# EAGLE library part TLV61220 (library bt_regulator)
TLV61220 Low-Input Voltage Step-Up Voltage Converter / Regulator The TLV61220 device provides a power-supply solution for products powered by either a single-cell, two-cell, or three-cell alkaline, NiCd or NiMH, or one-cell Li-Ion or Li-polymer battery. Possible output Features: Up to 95% Efficiency at Typical Operating Conditions 5.5-μA Quiescent Current Startup Into Load at 0.7-V Input Voltage currents depend on the input-to-output voltage ratio. Operating Input Voltage from 0.7 V to 5.5 V Pass-Through Function during Shutdown Minimum Switching Current 200 mA Protections include output overvoltage, overtemperature, input undervoltage lockout Adjustable Output Voltage from 1.8 V to 5.5 V Small 6-pin Thin SOT-23 Package Datasheet: TLV61220.pdf <http://www.ti.com/lit/ds/symlink/tlv61220.pdf>
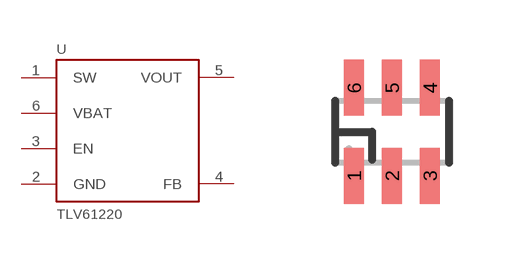
[diagram p7: symbol with the pads of SOT23-6; footprint SOT23-6]

Designator prefix U

## TLV61220  [SOT23-6]
1  SW
2  GND
3  EN
4  FB
5  VOUT
6  VBAT

## Footprint SOT23-6 (pad centres in mm)
SOT23-6 package This is the DBV6 package from Texas Instruments. It differs from the one in the Eagle libraries (there are two versions in ref-packages.lbr) in that the pad dimensions are 0.5mm x 1.4mm, as in the TI recommendation. The pin spacing is 0.95mm, and the package body has nominal dimensions 2.9mm long by 1.6mm wide.
smd 0.5 x 1.4: 1 -0.95,-1.1; 2 0,-1.1; 3 0.95,-1.1; 4 0.95,1.1; 5 0,1.1; 6 -0.95,1.1